# Altium integrated library sensor.IntLib: 18 symbols
Pins are listed as number, name and electrical type; pins without a type are passive.

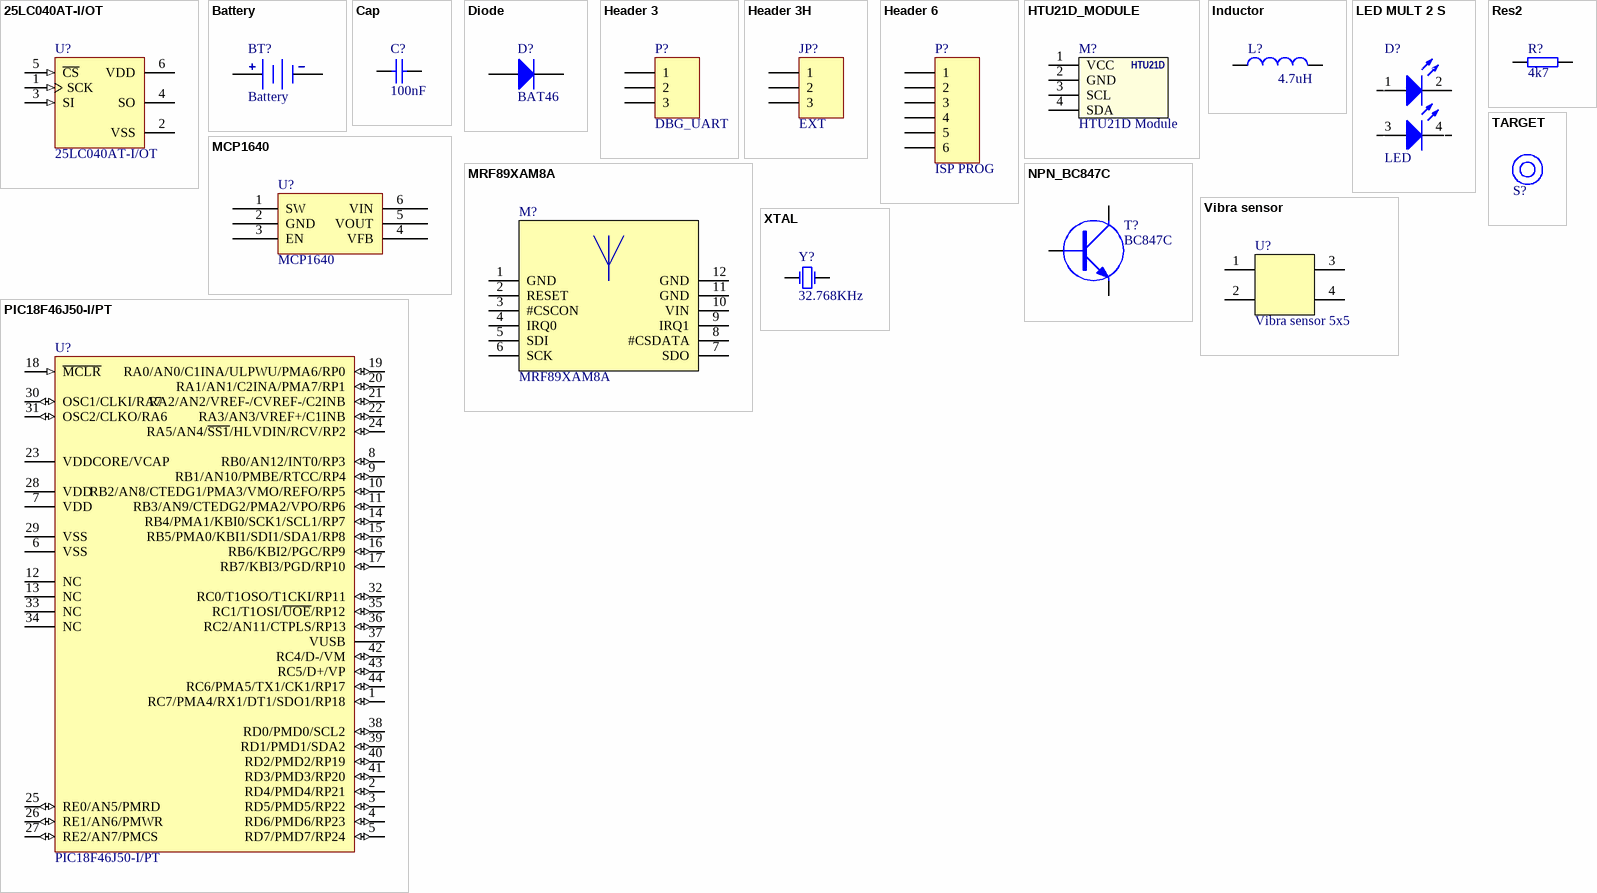
[diagram p0: symbols 25LC040AT-I/OT to XTAL]

## 25LC040AT-I/OT
designator U?
4K SPI Bus Serial EEPROM, 6-Pin SOT-23, Industrial Temperature, Tape and Reel; FirstPublished: 29-Jan-2009; LatestRevisionDate: 02-Dec-2009; LatestRevisionNote: Updated to datasheet revision F, Jul-2009; DatasheetVersion: revF, Jul-2009; PackageVersion: revBB, Aug-2009; PackageReference: SOT-23-OT6; Publisher: Altium Limited; PackageDescription: 6-Lead Plastic Small Outline Transistor (OT) [SOT-23]; Supplier 1: Digi-Key; Supplier Part Number 1: 25LC040AT-I/OTTR-ND; Supplier 2: Digi-Key; Supplier Part Number 2: 25LC040AT-I/OTCT-ND; Supplier 3: Digi-Key; Supplier Part Number 3: 25LC040AT-I/OTDKR-ND; Supplier 4: Farnell; Supplier Part Number 4: 1331388; Supplier 5: Newark; Supplier Part Number 5: 72J3691; Code_IPC: SOT26A-6; ComponentLink1Description: Datasheet; ComponentLink1URL: http://ww1.microchip.com/downloads/en/DeviceDoc/21827F.pdf; ComponentLink2Description: Packaging Specification; ComponentLink2URL: http://www.microchip.com/stellent/groups/techpub_sg/documents/packagingspec/en012702.pdf; ComponentLink3Description: Microchip.com Home; ComponentLink3URL: http://www.microchip.com/; farnell: 1331388
footprint SOT-23-OT6_N (SOT23, 6-Leads, Body 2.9x1.6mm, Pitch 0.95mm, Lead Span 2.7mm, IPC Medium Density)
pins: 1 SCK (in), 2 VSS (power), 3 SI (in), 4 SO (hiz), 5 ~{CS} (in), 6 VDD (power)

## Battery
designator BT?
Multicell Battery; Published: 24-Mar-1999; LatestRevisionDate: 17-Jul-2002; LatestRevisionNote: Re-released for DXP Platform.; PackageReference: BAT-2; Publisher: Altium Limited
footprint BAT-2 (Multicell Battery; 2 Leads)
footprint BATT_HOLDER (Battery holder 2xAAA)
footprint BATT1220-horizontal
footprint BATT_HOLDER-AAA
pins: 1 +, 2 -

## Cap
designator C?, comment 100nF
Capacitor; Published: 8-Jun-2000; LatestRevisionDate: 17-Jul-2002; LatestRevisionNote: Re-released for DXP Platform.; PackageReference: 0402; Publisher: Altium Limited; Value: 100nF
simulation model CAP (Capacitor)
signal-integrity model Cap
footprint C0402 (Capacitor SMD 0402; 1.0 x 0.5 mm)
footprint C0603 (Capacitor SMD 0603; 1.6 x 0.8 mm)
footprint C0805 (Capacitor SMD 0805; 2.0 x 1.2 mm)
footprint C1206 (Capacitor SMD 1206; 3.2 x 1.6 mm)
footprint C1210 (Capacitor SMD 1210; 3.2 x 2.5 mm)
footprint C1812 (Capacitor SMD 1812; 4.5 x 3.2 mm)
footprint C2220 (Capacitor SMD 2220; 5.7 x 5.0 mm)
pins: 1, 2

## Diode
designator D?, comment BAT46
Default Diode; Value: S2D; Published: 8-Jun-2000; LatestRevisionDate: 17-Jul-2002; LatestRevisionNote: Re-released for DXP Platform.; PackageDocument: Sep-1996; PackageReference: SMB; Publisher: Altium Limited; Code_JEDEC: DO-214-AA; Manufacture: *; Farnell: *
footprint SMC (DO-214-AB/SMC; 2 C-Bend Leads; Body 7.9 x 5.9 mm, inc. leads (LxW))
simulation model DIODE (Diode)
signal-integrity model Diode
footprint SMB (DO-214-AA/SMB; 2 C-Bend Leads; Body 5.3 x 3.6 mm)
footprint DO-214-AC/SMA (DO-214-AC/SMA; 2 C-Bend Leads; Body 5.3 x 2.6 mm, inc. leads (LxW))
footprint SOD-323 (SOD-323/SC-76; 2 Leads; Body 1.7 x 1.3 mm, (LxW)); pin to pad 1>2 2>1
pins: 1 A, 2 K

## Header 3
designator P?, comment DBG_UART
Header, 3-Pin; LatestRevisionDate: 17-Jul-2002; LatestRevisionNote: Re-released for DXP Platform.; Publisher: Altium Limited
footprint HDR1X3 (Connector; Header; 3 Position)
signal-integrity model Connector
pins: 1, 2, 3

## Header 3H
designator JP?, comment EXT
Header, 3-Pin, Right Angle; LatestRevisionDate: 17-Jul-2002; LatestRevisionNote: Re-released for DXP Platform.; Publisher: Altium Limited
footprint HDR1X3H (Connector; Header; 3 Position; Right Angle)
signal-integrity model Connector
pins: 1, 2, 3

## Header 6
designator P?, comment ISP PROG
Header, 6-Pin; LatestRevisionDate: 17-Jul-2002; LatestRevisionNote: Re-released for DXP Platform.; Publisher: Altium Limited
footprint HDR1X6 (Connector; Header; 6 Position)
signal-integrity model Connector
pins: 1, 2, 3, 4, 5, 6

## HTU21D_MODULE
designator M?, comment HTU21D Module
Digital Barometric Pressure Sensor Module
footprint HTU21D
pins: 1 VCC, 2 GND, 3 SCL, 4 SDA
text: HTU21D

## Inductor
designator L?  value 4.7uH  (hidden comment: Inductor)
Code_IEC: 1005; Published: 8-Jun-2000; LatestRevisionDate: 17-Jul-2002; LatestRevisionNote: Re-released for DXP Platform.; PackageReference: 0402-A; Publisher: Altium Limited; Code_JEITA: 0402; farnell: 2292502
footprint 0402-A (Chip Inductor; Body 1 x 0.5 mm (LxW typ))
footprint L0603 (Chip Inductor; Body 1.6 x 0.8 mm (LxW typ))
footprint 2012_Chip (2012 Chip; Chip Inductor; Body 2.0 x 1.2 mm (LxW typ))
footprint 2029 (Chip Inductor; Body 2 x 1.2 mm (LxW typ))
footprint 3261 (3216 Chip; Chip Inductor; Body 3.2 x 1.6 mm (LxW typ))
footprint 4564_Chip (4564 Chip; Chip Inductor; Body 4.5 x 6.4 mm (LxW typ))
simulation model INDUCTOR (Inductor)
signal-integrity model Inductor
footprint SDR1006 (http://www.bourns.com/data/global/pdfs/SDR1006.pdf)
footprint INDP6060X18N (Precision Wire Wound Inductor, 2-Leads, Body 6,0x6,0mm, IPC Medium Density)
footprint IND VLCF5020 (Precision Wire Wound Inductor, 2-Leads, Body 5,3x5,0mm, IPC Medium Density)
footprint WE-PD 4 (POWER-CHOKE WE-PD 4, farnell 1636132)
footprint DRA125 (DRA Series  High Power Density,  High Efficiency, Shielded Inductors)
footprint IND-RAD-D9 (Inductor radial D9)
footprint IND3x3 (TYS30104R7M-10)
pins: 1, 2

## LED MULT 2 S
designator D?, comment LED
farnell: 2426205
footprint LED MULTI2 (3.0mmx2.5mm SMT LED, 1.4mm thickness.)
pins: 1 A, 2 K, 3 A, 4 K

## MCP1640
designator U?
0.65V Start-up Synchronous Boost Regulator; farnell: 1800208
footprint SOT-23-OT6_N (SOT23, 6-Leads, Body 2.9x1.6mm, Pitch 0.95mm, Lead Span 2.7mm, IPC Medium Density)
pins: 1 SW, 2 GND, 3 EN, 4 VFB, 5 VOUT, 6 VIN

## MRF89XAM8A
designator M?
868 MHz Ultra-Low Power  Sub-GHz Transceiver Module; farnell: 1875307
footprint MRF89XAM8A (868MHz Ultra-Low Power  Sub-GHz Transceiver Module)
pins: 1 GND, 2 RESET, 3 #CSCON, 4 IRQ0, 5 SDI, 6 SCK, 7 SDO, 8 #CSDATA, 9 IRQ1, 10 VIN, 11 GND, 12 GND

## NPN_BC847C
designator T?, comment BC847C
NPN General-purpose Transistor; Published: 17-Sep-2003; LatestRevisionDate: 12-Dec-2006; LatestRevisionNote: IPC-7351 Footprint Added.; DatasheetVersion: 4-Feb-2002; PackageVersion: May-1999; PackageReference: SOT23; Publisher: Altium Limited; PackageDescription: 3-Pin SOT-23 Package 0.95 mm Pitch, 2.3 mm Lead Span; ComponentLink1Description: Manufacturer Link; ComponentLink1URL: http://www.nxp.com; ComponentLink2Description: Datasheet; ComponentLink2URL: http://www.nxp.com/acrobat_download/datasheets/BC847_BC547_SER_6.pdf
simulation model QBC847C (NPN)
signal-integrity model BC847C
footprint SOT23 (SOT23; 3 Leads; Body 3.0 x 2.6 mm)
pins: 1 B, 2 E, 3 C

## PIC18F46J50-I/PT
designator U?
Low Power, High Performance USB Microcontroller with nanoWatt XLP Technology, 44-pin TQFP, Industrial Temperature; FirstPublished: 2-Dec-2009; DatasheetVersion: revC, Oct-2009; PackageVersion: revBB, Aug-2009; PackageReference: TQFP-PT44; Publisher: Altium Limited; PackageDescription: 44-Lead Plastic Thin Quad Flatpack (PT) - 10x10x1mm Body, 2.00mm [TQFP]; Supplier 1: Digi-Key; Supplier Part Number 1: PIC18F46J50-I/PT-ND; Supplier 2: Farnell; Supplier Part Number 2: 1706312; Supplier 3: Newark; Supplier Part Number 3: 98M1834; Code_JEDEC: MS-026; ComponentLink1Description: Datasheet; ComponentLink1URL: http://ww1.microchip.com/downloads/en/DeviceDoc/39931c.pdf; ComponentLink2Description: Packaging Specification; ComponentLink2URL: http://www.microchip.com/stellent/groups/techpub_sg/documents/packagingspec/en012702.pdf; ComponentLink3Description: Microchip.com Home; ComponentLink3URL: http://www.microchip.com/; farnell: 1706312
footprint TQFP-PT44_N (Thin QFP, 44-Leads, Body 10x10mm, Pitch 0.8mm, IPC Medium Density)
footprint TQFP-PT44_L (Thin QFP, 44-Leads, Body 10x10mm, Pitch 0.8mm, IPC High Density)
footprint TQFP-PT44_M (Thin QFP, 44-Leads, Body 10x10mm, Pitch 0.8mm, IPC Low Density)
pins: 1 RC7/PMA4/RX1/DT1/SDO1/RP18 (io), 2 RD4/PMD4/RP21 (io), 3 RD5/PMD5/RP22 (io), 4 RD6/PMD6/RP23 (io), 5 RD7/PMD7/RP24 (io), 6 VSS (power), 7 VDD (power), 8 RB0/AN12/INT0/RP3 (io), 9 RB1/AN10/PMBE/RTCC/RP4 (io), 10 RB2/AN8/CTEDG1/PMA3/VMO/REFO/RP5 (io), 11 RB3/AN9/CTEDG2/PMA2/VPO/RP6 (io), 12 NC, 13 NC, 14 RB4/PMA1/KBI0/SCK1/SCL1/RP7 (io), 15 RB5/PMA0/KBI1/SDI1/SDA1/RP8 (io), 16 RB6/KBI2/PGC/RP9 (io), 17 RB7/KBI3/PGD/RP10 (io), 18 ~{MCLR} (in), 19 RA0/AN0/C1INA/ULPWU/PMA6/RP0 (io), 20 RA1/AN1/C2INA/PMA7/RP1 (io), 21 RA2/AN2/VREF-/CVREF-/C2INB (io), 22 RA3/AN3/VREF+/C1INB (io), 23 VDDCORE/VCAP (power), 24 RA5/AN4/~{SS1}/HLVDIN/RCV/RP2 (io), 25 RE0/AN5/PMRD (io), 26 RE1/AN6/PMWR (io), 27 RE2/AN7/PMCS (io), 28 VDD (power), 29 VSS (power), 30 OSC1/CLKI/RA7 (io), 31 OSC2/CLKO/RA6 (io), 32 RC0/T1OSO/T1CKI/RP11 (io), 33 NC, 34 NC, 35 RC1/T1OSI/~{UOE}/RP12 (io), 36 RC2/AN11/CTPLS/RP13 (io), 37 VUSB (power), 38 RD0/PMD0/SCL2 (io), 39 RD1/PMD1/SDA2 (io), 40 RD2/PMD2/RP19 (io), 41 RD3/PMD3/RP20 (io), 42 RC4/D-/VM (io), 43 RC5/D+/VP (io), 44 RC6/PMA5/TX1/CK1/RP17 (io)

## Res2
designator R?, comment 4k7
Resistor; Published: 8-Jun-2000; LatestRevisionDate: 17-Jul-2002; LatestRevisionNote: Re-released for DXP Platform.; PackageReference: 0603; Publisher: Altium Limited; Value: 4k7
footprint AXIAL-0.4 (Resistor; 2 Leads)
simulation model RESISTOR (Resistor)
signal-integrity model Res
footprint R0402 (Resistor SMD 0402; 1.0 x 0.5 mm)
footprint R0603 (Resistor SMD 0603; 1.6 x 0.8 mm)
footprint R0805 (Resistor SMD 0805; 2.0 x 1.2 mm)
footprint R1206 (Resistor SMD 1206; 3.2 x 1.6 mm)
footprint R1812 (Resistor SMD 1812; 4.5 x 3.2 mm)
footprint R2512 (Resistor SMD 2512; 6.3 x 3.2 mm)
footprint AXIAL-0.3 (Resistor; 2 Leads)
footprint AXIAL-0.7 (Variable Resistor; 2 Leads)
pins: 1, 2

## TARGET
designator S?  (value not drawn)
footprint TARGET

## Vibra sensor
designator U?, comment Vibra sensor 5x5
Vibration sensor 5x5; ebay: *
footprint VIBRATION_SENSOR 5x5
pins: 1, 2, 3, 4

## XTAL
designator Y?, comment 32.768KHz
Crystal Oscillator; Value: 25MHz; Published: 8-Jun-2000; LatestRevisionDate: 17-Jul-2002; LatestRevisionNote: Re-released for DXP Platform.; PackageReference: R38; Publisher: Altium Limited
footprint R38 (Crystal, Thru-Hole; 2 Leads; Body 3.1 x 8.2 mm (Dia.xH))
simulation model XTAL (Spice Subcircuit)
footprint XTAL_HC49 (Crystal HC49; 11.5 x 5mm)
footprint XTAL_R26 (Crystal R26)
pins: 1 OSC1, 2 OSC2